# Altium schematic symbol library TLV271CW5.Schlib: 1 symbol
Pins are listed as number, name and electrical type; pins without a type are passive.

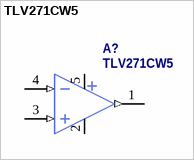
[diagram p0: symbol TLV271CW5]

## TLV271CW5
designator A?
pins: 1 OUT2 (out), 2 GND (power), 3 IN+2 (in), 4 IN-2 (in), 5 VDD (power)